# Altium footprint library TPSM84824MOL.PcbLib: 5 footprints
Each footprint in its own frame and in the unit in brackets; x right, y up, seen from the top. Pads: shape width x height; smd on the part's side, far side on the other; paste and mask are expansions set on the pad; w line width, h text height; cw(c..) or ccw(c..) is an arc to the next point about the centre after c.
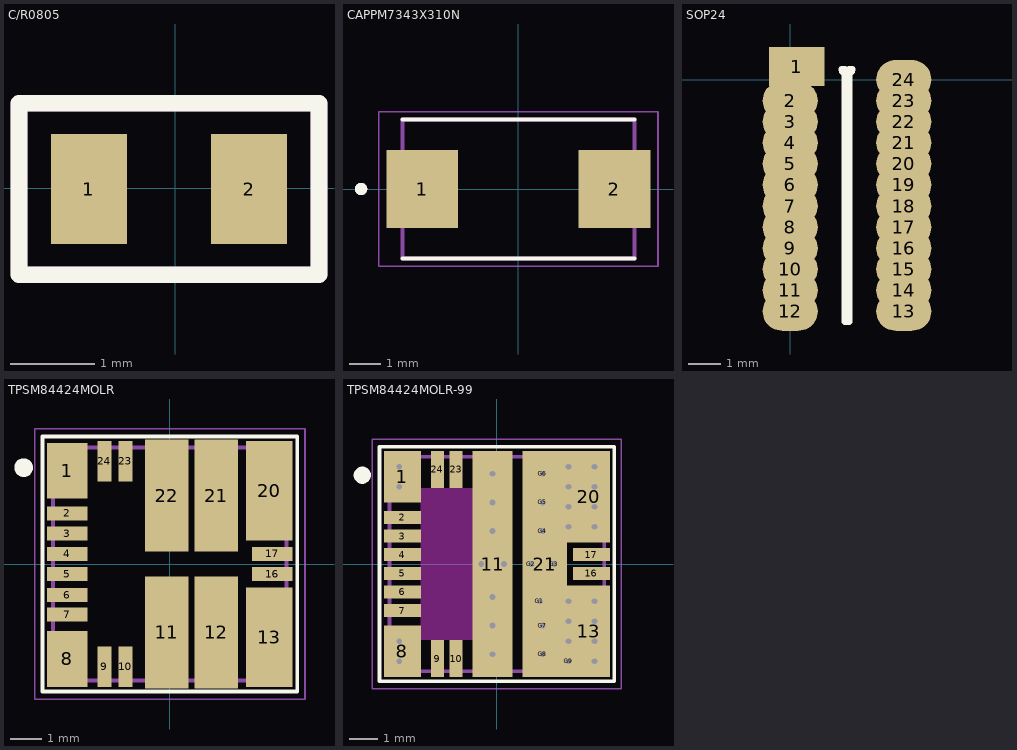
[diagram p0: the footprints below, top view; thin cyan lines are the x and y axes]

## C/R0805 [mm]
pads (2):
  rect 0.9x1.3 smd: 1(-1.023,-0.006) 2(0.877,-0.006)
Top Overlay:
  lines w0.2: 1.705,-1.022 -1.851,-1.022 -1.851,1.01 1.705,1.01 1.705,-0.982
Mechanical 29:
  lines w0.2: -1.851,-1.022 -1.851,1.01 1.705,1.01 1.705,-1.022 -1.851,-1.022
  text ".Designator" at -1.673,-0.906 h0.6
3D body "CAPC2012X95N EIA 0805.step": height 0.96, standoff 0.01, extent -1.057,-0.606 0.943,0.594

## CAPPM7343X310N [mm]
pads (2):
  rect 2.31x2.52 smd: 1(-3.1,0) 2(3.1,0)
Top Overlay:
  circle w0.2: c-5.08,0 r0.1
  lines w0.127: -3.75,-2.25 3.75,-2.25 ; -3.75,2.25 3.75,2.25
Mechanical 4:
  circle w0.2: c-5.08,0 r0.1
  circle w0.2: c-5.08,0 r0.1
  lines w0.127: -3.75,-2.25 -3.75,2.25 ; -3.75,-2.25 3.75,-2.25 ; -3.75,-2.25 -3.75,2.25 ; -3.75,-2.25 3.75,-2.25 ; -3.75,2.25 3.75,2.25 ; -3.75,2.25 3.75,2.25 ; 3.75,-2.25 3.75,2.25 ; 3.75,-2.25 3.75,2.25
Mechanical 16:
  lines w0.05: -4.505,-2.5 -4.505,2.5 4.505,2.5 4.505,-2.5 -4.505,-2.5
3D body "T495D106M035ATE125.step": height 3.11, standoff 0, extent -3.9,-2.2 3.7,2.4

## SOP24 [mm]
pads (24):
  rect 1.7x1.2 smd: 1(0.2,0.4)
  oval 1.7x1.2 smd: 2(0,-0.65) 3(0,-1.3) 4(0,-1.95) 5(0,-2.6) 6(0,-3.25) 7(0,-3.9) 8(0,-4.55) 9(0,-5.2) 10(0,-5.85) 11(0,-6.5) 12(0,-7.15) 13(3.5,-7.15) 14(3.5,-6.5) 15(3.5,-5.85) 16(3.5,-5.2) 17(3.5,-4.55) 18(3.5,-3.9) 19(3.5,-3.25) 20(3.5,-2.6) 21(3.5,-1.95) 22(3.5,-1.3) 23(3.5,-0.65) 24(3.5,0)
Top Overlay:
  lines w0.2: 1.587,0.325 ccw(c1.75,0.325) 1.912,0.325 1.815,0.325 1.815,-7.475 1.685,-7.475 1.685,0.325 1.587,0.325

## TPSM84424MOLR [mm]
pads (20):
  rect 1.3x1.8 smd: 1(-3.3,3) 8(-3.3,-3.05)
  rect 1.3x0.45 smd: 2(-3.3,1.625) 3(-3.3,0.975) 4(-3.3,0.325) 5(-3.3,-0.325) 6(-3.3,-1) 7(-3.3,-1.625) 16(3.3,-0.325) 17(3.3,0.325)
  rect 0.45x1.3 smd: 9(-2.1,-3.3) 10(-1.425,-3.3) 23(-1.425,3.3) 24(-2.1,3.3)
  rect 1.4x3.6 smd: 11(-0.1,-2.2) 12(1.5,-2.2) 21(1.5,2.2) 22(-0.1,2.2)
  rect 1.5x3.2 smd: 13(3.2,-2.35) 20(3.2,2.35)
Top Overlay:
  circle w0.3: c-4.7,3.1 r0.15
  lines w0.127: -4.1,-4.1 -4.1,4.1 4.1,4.1 4.1,-4.1 -4.1,-4.1
Top Paste:
  region: 1,-0.45 2.2,-0.45 2.2,-2.051 1,-2.051
  region: 1,2.05 2.2,2.05 2.2,0.45 1,0.45
  region: 1.002,-2.25 2.2,-2.25 2.2,-3.858 1.002,-3.858
  region: 1.001,3.85 2.2,3.85 2.2,2.252 1.001,2.252
  region: -0.75,-0.45 0.45,-0.45 0.45,-2.051 -0.75,-2.051
  region: -0.751,2.05 0.45,2.05 0.45,0.45 -0.751,0.45
  region: -0.751,-2.25 0.45,-2.25 0.45,-3.854 -0.751,-3.854
  region: -0.751,3.85 0.45,3.85 0.45,2.254 -0.751,2.254
  region: 2.702,1.8 3.9,1.8 3.9,1.451 2.702,1.451
  region: 2.703,1.15 3.9,1.15 3.9,0.801 2.703,0.801
  region: 2.7,-0.8 3.9,-0.8 3.9,-1.15 2.7,-1.15
  region: 2.701,-1.45 3.9,-1.45 3.9,-1.801 2.701,-1.801
  region: 2.704,0.5 3.9,0.5 3.9,0.15 2.704,0.15
  region: 2.705,-0.15 3.9,-0.15 3.9,-0.501 2.705,-0.501
  region: -3.901,-1.45 -2.7,-1.45 -2.7,-1.8 -3.901,-1.8
  region: -3.904,-0.8 -2.7,-0.8 -2.7,-1.151 -3.904,-1.151
  region: -3.905,-0.15 -2.7,-0.15 -2.7,-0.501 -3.905,-0.501
  region: -3.9,0.5 -2.7,0.5 -2.7,0.15 -3.9,0.15
  region: -3.905,1.15 -2.7,1.15 -2.7,0.801 -3.905,0.801
  region: -3.903,1.8 -2.7,1.8 -2.7,1.451 -3.903,1.451
  region: 2.751,-2.25 3.85,-2.25 3.85,-3.852 2.751,-3.852
  region: 2.752,3.85 3.85,3.85 3.85,2.252 2.752,2.252
  region: -3.854,-2.25 -2.75,-2.25 -2.75,-3.854 -3.854,-3.854
  region: -3.856,3.85 -2.75,3.85 -2.75,2.253 -3.856,2.253
Top Solder:
  region: 0.95,-0.4 2.25,-0.4 2.25,-3.9 0.95,-3.9
  region: 0.952,3.9 2.25,3.9 2.25,0.401 0.952,0.401
  region: -0.801,-0.4 0.5,-0.4 0.5,-3.903 -0.801,-3.903
  region: -0.8,3.9 0.5,3.9 0.5,0.4 -0.8,0.4
  region: 2.702,1.8 3.9,1.8 3.9,1.451 2.702,1.451
  region: 2.702,1.15 3.9,1.15 3.9,0.801 2.702,0.801
  region: 2.702,-0.8 3.9,-0.8 3.9,-1.151 2.702,-1.151
  region: 2.7,-1.45 3.9,-1.45 3.9,-1.8 2.7,-1.8
  region: 2.705,0.5 3.9,0.5 3.9,0.15 2.705,0.15
  region: 2.705,-0.15 3.9,-0.15 3.9,-0.501 2.705,-0.501
  region: -3.905,-1.45 -2.7,-1.45 -2.7,-1.802 -3.905,-1.802
  region: -3.902,-0.8 -2.7,-0.8 -2.7,-1.151 -3.902,-1.151
  region: -3.902,-0.15 -2.7,-0.15 -2.7,-0.5 -3.902,-0.5
  region: -3.905,0.5 -2.7,0.5 -2.7,0.15 -3.905,0.15
  region: -3.905,1.15 -2.7,1.15 -2.7,0.801 -3.905,0.801
  region: -3.902,1.8 -2.7,1.8 -2.7,1.451 -3.902,1.451
  region: 2.702,-2.2 3.9,-2.2 3.9,-3.903 2.702,-3.903
  region: 2.703,3.9 3.9,3.9 3.9,2.203 2.703,2.203
  region: -3.903,-2.2 -2.7,-2.2 -2.7,-3.903 -3.903,-3.903
  region: -3.907,3.9 -2.7,3.9 -2.7,2.204 -3.907,2.204
Mechanical 4:
  lines w0.127: -3.75,-3.75 3.75,-3.75 ; -3.75,-3.75 -3.75,3.75 ; -3.75,-3.75 3.75,-3.75 ; -3.75,-3.75 -3.75,3.75 ; -3.75,3.75 3.75,3.75 ; -3.75,3.75 3.75,3.75 ; 3.75,-3.75 3.75,3.75 ; 3.75,-3.75 3.75,3.75
Mechanical 16:
  lines w0.05: -4.35,-4.35 -4.35,4.35 4.35,4.35 4.35,-4.35 -4.35,-4.35
3D body "TPSM84424MOLR--3DModel-STEP-56544.STEP": height 5.4, standoff 0, extent -3.75,-3.75 3.75,3.75

## TPSM84424MOLR-99 [mm]
pads (54):
  rect 1.3x1.8 smd: 1(-3.3,3.05) 8(-3.3,-3.05)
  round 0.35 hole 0.2: 1.1(-3.41,3.4) 1.2(-3.41,2.7) 8.1(-3.41,-2.7) 8.2(-3.41,-3.4) 11.1(-0.15,-3.15) 11.2(-0.15,-2.15) 11.3(-0.15,-1.15) 11.4(-0.15,1.15) 11.5(-0.15,2.15) 11.6(-0.15,3.15) 11.7(-0.55,0) 11.8(0.25,0) G1(1.5,-1.3) G2(1.2,0) G3(2,0) G4(1.6,1.15) G5(1.6,2.15) G6(1.6,3.15) G7(1.6,-2.15) G8(1.6,-3.15) G9(2.5,-3.4) G10(2.5,-2.7) G11(2.5,-2) G12(2.5,-1.3) G13(3.41,-1.3) G14(3.41,-2) G15(2.5,2) G16(2.5,1.3) G18(2.5,2.7) G19(2.5,3.4) G20(3.41,3.4) G21(3.41,2.7) G22(3.41,2) G23(3.41,1.3) G24(3.41,-2.7) G25(3.41,-3.4)
  rect 1.3x0.45 smd: 2(-3.3,1.625) 3(-3.3,0.975) 4(-3.3,0.325) 5(-3.3,-0.325) 6(-3.3,-0.975) 7(-3.3,-1.625) 16(3.3,-0.325) 17(3.3,0.325)
  rect 0.45x1.3 smd: 9(-2.075,-3.3) 10(-1.425,-3.3) 23(-1.425,3.3) 24(-2.075,3.3)
  rect 1.4x7.9 smd: 11(-0.15,0)
  rect 1.5x3.2 smd: 13(3.2,-2.35) 20(3.2,2.35)
  rect 1.55x7.9 smd: 21(1.675,0)
Top Overlay:
  circle w0.3: c-4.7,3.1 r0.15
  lines w0.127: -4.1,-4.1 4.1,-4.1 4.1,4.1 -4.1,4.1 -4.1,-4.1
Top Paste:
  region: -3.856,3.85 -2.75,3.85 -2.75,2.253 -3.856,2.253
  region: -3.854,-2.25 -2.75,-2.25 -2.75,-3.854 -3.854,-3.854
  region: 2.752,3.85 3.85,3.85 3.85,2.252 2.752,2.252
  region: 2.751,-2.25 3.85,-2.25 3.85,-3.852 2.751,-3.852
  region: -3.903,1.8 -2.7,1.8 -2.7,1.451 -3.903,1.451
  region: -3.905,1.15 -2.7,1.15 -2.7,0.801 -3.905,0.801
  region: -3.9,0.5 -2.7,0.5 -2.7,0.15 -3.9,0.15
  region: -3.905,-0.15 -2.7,-0.15 -2.7,-0.501 -3.905,-0.501
  region: -3.904,-0.8 -2.7,-0.8 -2.7,-1.151 -3.904,-1.151
  region: -3.901,-1.45 -2.7,-1.45 -2.7,-1.8 -3.901,-1.8
  region: -2.68,-3.125 -1.475,-3.125 -1.475,-3.481 -2.68,-3.481
  region: -2.028,-3.125 -0.825,-3.125 -0.825,-3.481 -2.028,-3.481
  region: 2.705,-0.15 3.9,-0.15 3.9,-0.501 2.705,-0.501
  region: -2.027,3.475 -0.825,3.475 -0.825,3.128 -2.027,3.128
  region: -2.679,3.475 -1.475,3.475 -1.475,3.129 -2.679,3.129
  region: 2.704,0.5 3.9,0.5 3.9,0.15 2.704,0.15
  region: 2.701,-1.45 3.9,-1.45 3.9,-1.801 2.701,-1.801
  region: 2.7,-0.8 3.9,-0.8 3.9,-1.15 2.7,-1.15
  region: 2.703,1.15 3.9,1.15 3.9,0.801 2.703,0.801
  region: 2.702,1.8 3.9,1.8 3.9,1.451 2.702,1.451
  region: -0.751,3.85 0.45,3.85 0.45,2.254 -0.751,2.254
  region: -0.751,-2.25 0.45,-2.25 0.45,-3.854 -0.751,-3.854
  region: -0.751,2.05 0.45,2.05 0.45,0.45 -0.751,0.45
  region: -0.75,-0.45 0.45,-0.45 0.45,-2.051 -0.75,-2.051
  region: 1.001,3.85 2.2,3.85 2.2,2.252 1.001,2.252
  region: 1.002,-2.25 2.2,-2.25 2.2,-3.858 1.002,-3.858
  region: 1,2.05 2.2,2.05 2.2,0.45 1,0.45
  region: 1,-0.45 2.2,-0.45 2.2,-2.051 1,-2.051
Top Solder:
  region: -3.907,3.9 -2.7,3.9 -2.7,2.204 -3.907,2.204
  region: -3.903,-2.2 -2.7,-2.2 -2.7,-3.903 -3.903,-3.903
  region: 2.703,3.9 3.9,3.9 3.9,2.203 2.703,2.203
  region: 2.702,-2.2 3.9,-2.2 3.9,-3.903 2.702,-3.903
  region: -3.902,1.8 -2.7,1.8 -2.7,1.451 -3.902,1.451
  region: -3.905,1.15 -2.7,1.15 -2.7,0.801 -3.905,0.801
  region: -3.905,0.5 -2.7,0.5 -2.7,0.15 -3.905,0.15
  region: -3.902,-0.15 -2.7,-0.15 -2.7,-0.5 -3.902,-0.5
  region: -3.902,-0.8 -2.7,-0.8 -2.7,-1.151 -3.902,-1.151
  region: -3.905,-1.45 -2.7,-1.45 -2.7,-1.802 -3.905,-1.802
  region: -2.678,-3.125 -1.475,-3.125 -1.475,-3.478 -2.678,-3.478
  region: -2.029,-3.125 -0.825,-3.125 -0.825,-3.482 -2.029,-3.482
  region: 2.705,-0.15 3.9,-0.15 3.9,-0.501 2.705,-0.501
  region: -2.029,3.475 -0.825,3.475 -0.825,3.131 -2.029,3.131
  region: -2.68,3.475 -1.475,3.475 -1.475,3.131 -2.68,3.131
  region: 2.705,0.5 3.9,0.5 3.9,0.15 2.705,0.15
  region: 2.7,-1.45 3.9,-1.45 3.9,-1.8 2.7,-1.8
  region: 2.702,-0.8 3.9,-0.8 3.9,-1.151 2.702,-1.151
  region: 2.702,1.15 3.9,1.15 3.9,0.801 2.702,0.801
  region: 2.702,1.8 3.9,1.8 3.9,1.451 2.702,1.451
  region: -0.8,3.9 0.5,3.9 0.5,0.4 -0.8,0.4
  region: -0.801,-0.4 0.5,-0.4 0.5,-3.903 -0.801,-3.903
  region: 0.952,3.9 2.25,3.9 2.25,0.401 0.952,0.401
  region: 0.95,-0.4 2.25,-0.4 2.25,-3.9 0.95,-3.9
Keep-Out Layer:
  region: -2.651,2.65 -0.85,2.65 -0.85,-2.651 -2.651,-2.651
  region: -2.651,2.65 -0.85,2.65 -0.85,-2.651 -2.651,-2.651
  region: -2.651,2.65 -0.85,2.65 -0.85,-2.651 -2.651,-2.651
Mechanical 4:
  lines w0.127: -3.75,-3.75 -3.75,3.75 ; -3.75,-3.75 3.75,-3.75 ; -3.75,-3.75 -3.75,3.75 ; -3.75,-3.75 3.75,-3.75 ; -3.75,3.75 3.75,3.75 ; -3.75,3.75 3.75,3.75 ; 3.75,-3.75 3.75,3.75 ; 3.75,-3.75 3.75,3.75
Mechanical 16:
  lines w0.05: -4.35,-4.35 4.35,-4.35 4.35,4.35 -4.35,4.35 -4.35,-4.35
3D body "TPSM84424MOLR--3DModel-STEP-56544.STEP": height 5.4, standoff 0, extent -3.75,-3.75 3.75,3.75